# Altium schematic symbol library TBJ BC-547.SchLib: 1 symbol
Pins are listed as number, name and electrical type; pins without a type are passive.

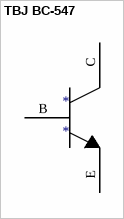
[diagram p0: symbol TBJ BC-547]

## TBJ BC-547
designator *
TRANS NPN 45V 0.1A TO-92; Manufacturer: ON Semiconductor; Manufacturer Part Number: BC547; Detailed Description: Bipolar (BJT) Transistor NPN 45V 100mA 300MHz 500mW Through Hole TO-92-3; Digi-Key Part Number: BC547-ND
footprint PCBComponent_1
pins: B Base "TRANS NPN 45V 0.1A TO-92", C Coletor, E Emissor